# Altium schematic symbol library pulser_driver_symbols.SchLib: 59 symbols
Pins are listed as number, name and electrical type; pins without a type are passive.

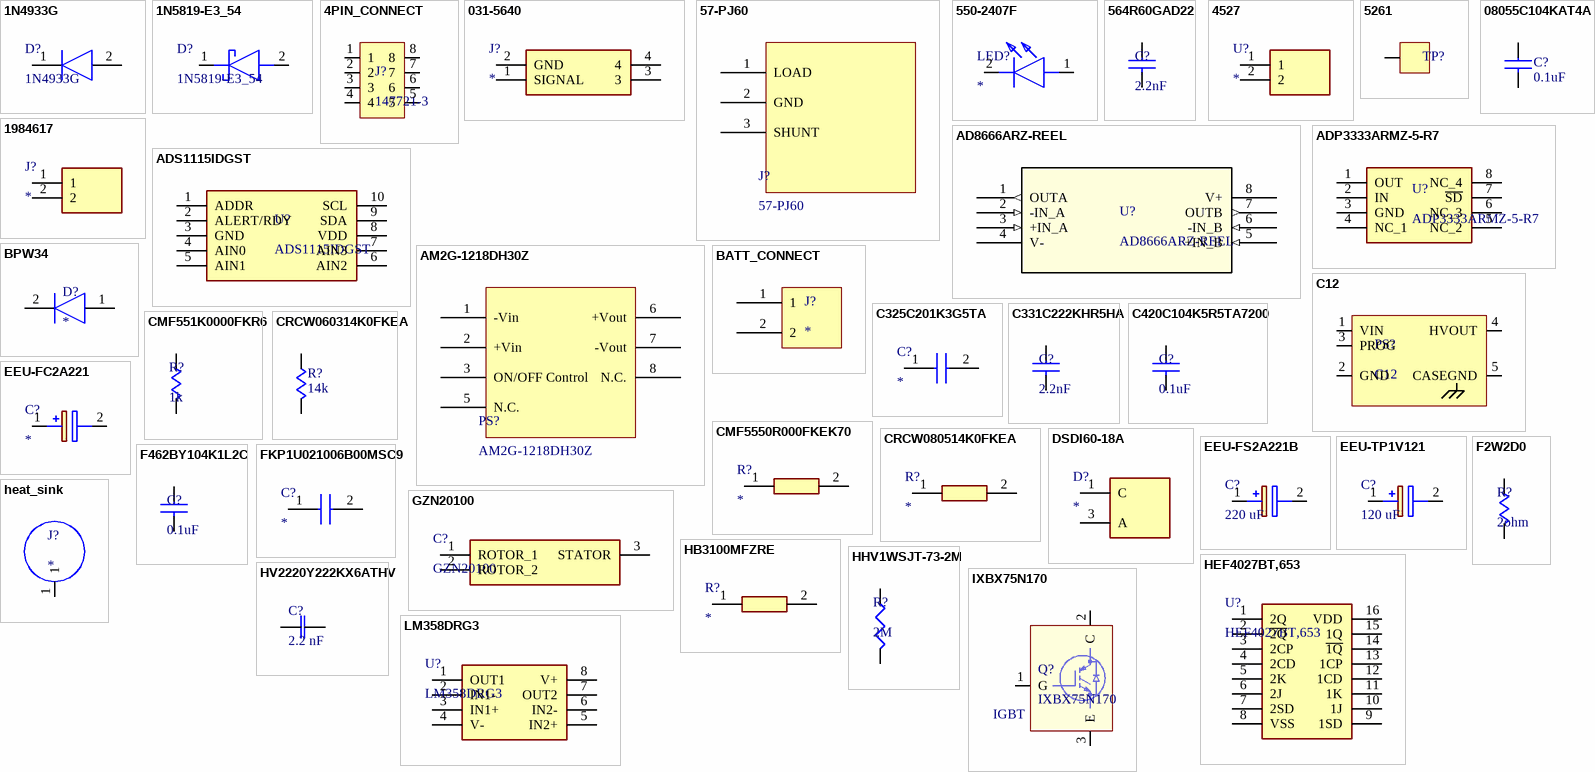
[diagram p0: symbols 1N4933G to LM358DRG3]

## 1N4933G
designator D?
Rectifiers 50V 1A Fast; Manufacturer_Name: ON Semiconductor; Datasheet Link: https://www.arrow.com/en/products/1n4933g/on-semiconductor; Manufacturer_Part_Number: 1N4933G; Mouser Part Number: 863-1N4933G; Mouser Price/Stock: https://www.mouser.co.uk/ProductDetail/onsemi/1N4933G?qs=y2kkmE52mdNCdpmhcWNRQA%3D%3D; Arrow Part Number: 1N4933G; Arrow Price/Stock: https://www.arrow.com/en/products/1n4933g/on-semiconductor?region=nac
footprint DIOAD1405W86L465D235
pins: 1 K, 2 A

## 1N5819-E3_54
designator D?
Schottky Diode; Manufacturer_Name: Vishay; Manufacturer_Part_Number: 1N5819-E3/54; Datasheet Link: https://www.vishay.com/docs/88525/1n5817.pdf; Mouser Part Number: 625-1N5819-E3; Mouser Price/Stock: https://www.mouser.co.uk/ProductDetail/Vishay-General-Semiconductor/1N5819-E3-54?qs=7w0fSgRKp93guDuu%252B5hJ0Q%3D%3D
footprint DIOAD1405W86L465D235
pins: 1 K, 2 A

## 4PIN_CONNECT
designator J?, comment 147721-3
footprint 4PIN_CONNECT
pins: 1, 2, 3, 4, 5, 6, 7, 8

## 031-5640
designator J?
Connector; Manufacturer_Name: Amphenol; Manufacturer_Part_Number: 031-5640-1010; Datasheet Link: https://datasheet.datasheetarchive.com/originals/distributors/Datasheets_SAMA/570beec7961c44031375f59c7939d09c.pdf; Height: 15.9mm
footprint 031-5640
pins: 1 SIGNAL, 2 GND, 3, 4

## 57-PJ60
designator J?
footprint 57-PJ60
pins: 1 LOAD, 2 GND, 3 SHUNT

## 550-2407F
designator LED?
LED; Manufacturer_Name: Dialight; Manufacturer_Part_Number: 550-2407F; Datasheet Link: https://componentsearchengine.com//550-2407F.pdf; Height: 6.1mm; Mouser2 Part Number: 645-550-2407F; Mouser2 Price/Stock: https://www.mouser.com/Search/Refine.aspx?Keyword=645-550-2407F
footprint 5502407F
pins: 1 A, 2 K

## 564R60GAD22
designator C?, comment 2.2nF
CAP CER TH 2200PF 6KV Z5U RADIAL
footprint 564R60GAD22
pins: 1, 2

## 4527
designator U?
Undefined or Miscellaneous; Manufacturer_Name: Keystone Electronics; Manufacturer_Part_Number: 4527; Datasheet Link: https://componentsearchengine.com//4527.pdf; Mouser2 Part Number: 534-4527; Mouser2 Price/Stock: https://www.mouser.com/Search/Refine.aspx?Keyword=534-4527
footprint 4527
pins: 1, 2

## 5261
designator TP?  (value not drawn)
TEST POINT grabber (BLACK) - MINIATURE
footprint 5261
pins: 1

## 08055C104KAT4A
designator C?, comment 0.1uF
CAP CER 0.1UF 50V X7R 0805; Value: *
footprint c_0805
pins: 1, 2

## 1984617
designator J?
Connector; Manufacturer_Name: Phoenix Contact; Manufacturer_Part_Number: 1984617; Datasheet Link: https://datasheet.datasheetarchive.com/originals/distributors/Datasheets-DGA17/1074867.pdf; Height: 9.3mm; Mouser Part Number: 651-1984617; Mouser Price/Stock: https://www.mouser.co.uk/ProductDetail/Phoenix-Contact/1984617?qs=ATjOrvm3mOhUrGlJQoUcpQ%3D%3D; Arrow Part Number: 1984617; Arrow Price/Stock: https://www.arrow.com/en/products/1984617/phoenix-contact?region=nac
footprint 1984617
pins: 1, 2

## AD8666ARZ-REEL
designator U?
AD8666ARZ-REELCT-ND
footprint AD8666ARZ-REEL (AD8666ARZ-REELCT-ND)
pins: 1 OUTA (out), 2 -IN_A (in), 3 +IN_A (in), 4 V- (power), 5 +IN_B (in), 6 -IN_B (in), 7 OUTB (out), 8 V+ (power)

## ADP3333ARMZ-5-R7
designator U?
IC REG LINEAR 5V 300MA 8MSOP
footprint SOP65P490X110-8N
pins: 1 OUT, 2 IN, 3 GND, 4 NC_1, 5 NC_2, 6 NC_3, 7 ~{SD}, 8 NC_4

## ADS1115IDGST
designator U?
ADC
footprint ADS1115-SOP
pins: 1 ADDR, 2 ALERT/RDY, 3 GND, 4 AIN0, 5 AIN1, 6 AIN2, 7 AIN3, 8 VDD, 9 SDA, 10 SCL

## AM2G-1218DH30Z
designator PS?
footprint AM2G-1218DH30Z
pins: 1 -Vin, 2 +Vin, 3 ON/OFF Control, 5 N.C., 6 +Vout, 7 -Vout, 8 N.C.

## BATT_CONNECT
designator J?
footprint batt_connect
pins: 1, 2

## BPW34
designator D?
VISHAY - BPW34 - Photodiode, 65 °, 2 nA, 900 nm, DIP-2; Dark Current: 2nA; Wavelength: 900nm; Rise Time: 100ns; Reverse Breakdown Voltage: 60V; Power Dissipation: 215mW; Diode Type: PIN; Viewing Angle: 130°; Lens Style: Clear; Supplier 1: Digi-Key; Manufacturer 1: Vishay; RoHS: Yes; Category: Photodiodes; Stock 1: 8180; Pricing 1: 1=1.21000, 10=0.98200, 100=0.60400, 500=0.51340, 1000=0.42280, 2500=0.40166, 5000=0.39260, 10000=0.38354, 25000=0.37750 (USD); Mount: Through Hole,PCB; Case/Package: DIP; Number of Pins: 2; Contact Plating: Tin; Min Operating Temperature: -40°C; Max Operating Temperature: 100°C; Packaging: Bulk; Fall Time: 100ns; Package Quantity: 3000; Max Reverse Voltage (DC): 60V; Reverse Voltage (DC): 60V; Max Power Dissipation: 215mW; Breakdown Voltage: 60V; Length: 4.5mm; Height: 2mm; Width: 4.3mm; Radiation Hardening: No; REACH SVHC: Unknown; Lead Free: Lead Free; ComponentLink1URL: https://datasheet.ciiva.com/15117/getdatasheetpartid-112064-15117125.pdf?src-supplier=Verical; ComponentLink1Description: https://datasheet.ciiva.com/15117/getdatasheetpartid-112064-15117125.pdf?src-supplier=Verical; ComponentLink2URL: https://datasheet.ciiva.com/25620/0900766b80de9fc5-25620357.pdf?src-supplier=RSComponents; ComponentLink2Description: https://datasheet.ciiva.com/25620/0900766b80de9fc5-25620357.pdf?src-supplier=RSComponents; ComponentLink3URL: https://datasheet.ciiva.com/1336/6514-1336219.pdf?src-supplier=Newark; ComponentLink3Description: https://datasheet.ciiva.com/1336/6514-1336219.pdf?src-supplier=Newark; ComponentLink4URL: https://datasheet.ciiva.com/4697/bpw34-79369-4697616.pdf?src-supplier=Mouser; ComponentLink4Description: https://datasheet.ciiva.com/4697/bpw34-79369-4697616.pdf?src-supplier=Mouser; ComponentLink5URL: https://datasheet.ciiva.com/1249/bpw34-1249073.pdf?src-supplier=Element14; ComponentLink5Description: https://datasheet.ciiva.com/1249/bpw34-1249073.pdf?src-supplier=Element14; ComponentLink6URL: https://datasheet.ciiva.com/1248/33605-1248690.pdf?src-supplier=Element14; ComponentLink6Description: https://datasheet.ciiva.com/1248/33605-1248690.pdf?src-supplier=Element14; ComponentLink7URL: https://datasheet.ciiva.com/4269/2bpw34-4269812.pdf?src-supplier=Arrow+Electronics; ComponentLink7Description: https://datasheet.ciiva.com/4269/2bpw34-4269812.pdf?src-supplier=Arrow+Electronics; ComponentLink8URL: https://datasheet.ciiva.com/8084/bpw34-8084840.pdf?src-supplier=Avnet; ComponentLink8Description: https://datasheet.ciiva.com/8084/bpw34-8084840.pdf?src-supplier=Avnet; ComponentLink9URL: https://datasheet.ciiva.com/2819/bpw34-2819744.pdf?src-supplier=Digi-Key; ComponentLink9Description: https://datasheet.ciiva.com/2819/bpw34-2819744.pdf?src-supplier=Digi-Key; ComponentLink10URL: https://datasheet.ciiva.com/1335/1809684-1335889.pdf?src-supplier=Newark; ComponentLink10Description: https://datasheet.ciiva.com/1335/1809684-1335889.pdf?src-supplier=Newark; ComponentLink11URL: https://datasheet.ciiva.com/1248/bpw34-1248686.pdf?src-supplier=Element14; ComponentLink11Description: https://datasheet.ciiva.com/1248/bpw34-1248686.pdf?src-supplier=Element14; Supplier Part Number 1: 751-1015-ND; Manufacturer Part Number 1: BPW34
footprint BPW34
pins: 1 A, 2 K

## C12
designator PS?
MPN is C12, DC DC conv
footprint C12
pins: 1 VIN, 2 GND, 3 PROG, 4 HVOUT, 5 CASEGND

## C325C201K3G5TA
designator C?
Capacitor; Manufacturer_Name: Kemet; Manufacturer_Part_Number: C325C201K3G5TA; Datasheet Link: https://www.kemet.com/specsheet/C325C201K3G5TA; Height: 7.62mm
footprint C325C201K3G5TA
pins: 1, 2

## C331C222KHR5HA
designator C?, comment 2.2nF
Multilayer Ceramic Capacitors MLCC - Leaded 3000V 2200pF X7R 10% LS=6.35mm
footprint C331C222KHR5HA
pins: 1, 2

## C420C104K5R5TA7200
designator C?, comment 0.1uF
CAP CER TH 0.1UF 50V X7R AXIAL
footprint C420C104K5R5TA7200
pins: 1, 2

## CMF551K0000FKR6
designator R?, comment 1k
Metal Film Resistors - Through Hole 1/2W 1Kohms 1%
footprint CMF551K0000FKR6
pins: 1, 2

## CMF5550R000FKEK70
designator R?
Resistor; Manufacturer_Name: Vishay; Manufacturer_Part_Number: CMF5550R000FKEK70; Datasheet Link: http://www.vishay.com/docs/31018/cmfind.pdf
footprint RESAD1526W69L610D229
pins: 1, 2

## CRCW060314K0FKEA
designator R?, comment 14k
RES 14.0K OHM 1/10W 1% 0603 SMD
footprint r_0603
pins: 1, 2

## CRCW080514K0FKEA
designator R?
Resistor; Manufacturer_Name: Vishay; Manufacturer_Part_Number: CRCW080514K0FKEA; Datasheet Link: http://www.vishay.com/docs/20035/dcrcwe3.pdf; Height: 0.5mm
footprint RESC2012X50N
pins: 1, 2

## DSDI60-18A
designator D?
Diode; Manufacturer_Name: LITTELFUSE; Manufacturer_Part_Number: DSDI60-18A; Datasheet Link: http://ixapps.ixys.com/DataSheet/96517.pdf; Height: 5.3mm
footprint TO546P530X1586X2594-2P
pins: 1 C, 3 A

## EEU-FC2A221
designator C?
Capacitor Polarised; Manufacturer_Name: Panasonic; Manufacturer_Part_Number: EEU-FC2A221; Description: Aluminium Electrolytic Capacitor; Datasheet Link: http://industrial.panasonic.com/cdbs/www-data/pdf/RDF0000/ABA0000C1209.pdf; Height: 27mm
footprint CAPPRD750W85D1600H2700
pins: 1 +, 2 -

## EEU-FS2A221B
designator C?, comment 220 uF
Capacitor Polarised 100VDC 220uF 1800mA EEU-FS2A221B; Manufacturer_Name: Panasonic; Datasheet Link: http://industrial.panasonic.com/cdbs/www-data/pdf/RDF0000/ABA0000C1255.pdf; Height: 27mm; Manufacturer_Part_Number: EEU-FS2A221B; Mouser Part Number: 667-EEU-FS2A221B; Mouser Price/Stock: https://www.mouser.co.uk/ProductDetail/Panasonic/EEU-FS2A221B?qs=w%2Fv1CP2dgqqAbg7G%252BWfZEw%3D%3D; Arrow Part Number: EEU-FS2A221B; Arrow Price/Stock: https://www.arrow.com/en/products/eeu-fs2a221b/panasonic
footprint CAPPRD500W65D1250H2700
pins: 1 +, 2 -

## EEU-TP1V121
designator C?, comment 120 uF
Capacitor Polarised; Manufacturer_Name: Panasonic; Manufacturer_Part_Number: EEU-TP1V121; Datasheet Link: http://industrial.panasonic.com/cdbs/www-data/pdf/RDF0000/ABA0000C1134.pdf; Height: 14mm
footprint CAPPRD500W65D1000H1400
pins: 1 +, 2 -

## F2W2D0
designator R?, comment 2ohm
RES TH 2 OHM 5% 2W AXIAL
footprint F2W2D0
pins: 1, 2

## F462BY104K1L2C
designator C?, comment 0.1uF
Film Capacitors 1250V 0.1uF 10% LS=15mm
footprint F462BY104K1L2C
pins: 1, 2

## FKP1U021006B00MSC9
designator C?
Capacitor; Manufacturer_Name: WIMA; Manufacturer_Part_Number: FKP1U021006B00MSC9; Datasheet Link: https://www.mouser.com/datasheet/2/440/e_WIMA_FKP_1-1139839.pdf; Height: 21mm
footprint FKP1U021006B00MSC9
pins: 1, 2

## GZN20100
designator C?
CAP TRIMMER 9-200PF 150V TH; Manufacturer_Name: Sprague Goodman; Datasheet Link: https://componentsearchengine.com/Datasheets/1/GZN20100.pdf; Height: 17mm; Manufacturer_Part_Number: GZN20100; Arrow Part Number: GZN20100; Mouser Part Number: 659-GZN20100; Mouser Price/Stock: https://www.mouser.com/Search/Refine.aspx?Keyword=659-GZN20100
footprint GZN20100
pins: 1 ROTOR_1, 2 ROTOR_2, 3 STATOR

## HB3100MFZRE
designator R?
Resistor; Manufacturer_Name: TE Connectivity; Manufacturer_Part_Number: HB3100MFZRE; Datasheet Link: http://www.te.com/commerce/DocumentDelivery/DDEController?Action=srchrtrv&DocNm=1773310&DocType=DS&DocLang=English
footprint HB3100MFZRE
pins: 1, 2

## heat_sink
designator J?
footprint heat_sink
pins: 1

## HEF4027BT,653
designator U?
Flip Flop JK TYPE DUAL 1BIT 16SO; Manufacturer_Name: Nexperia; Datasheet Link: https://assets.nexperia.com/documents/data-sheet/HEF4027B.pdf; Height: 1.75mm; Manufacturer_Part_Number: HEF4027BT,653; Arrow Part Number: HEF4027BT,653; Arrow Price/Stock: https://www.arrow.com/en/products/hef4027bt653/nexperia; Mouser Part Number: 771-HEF4027BTD-T; Mouser Price/Stock: https://www.mouser.com/Search/Refine.aspx?Keyword=771-HEF4027BTD-T
footprint HEF4027BT,653_SOIC
pins: 1 2Q, 2 ~{2Q}, 3 2CP, 4 2CD, 5 2K, 6 2J, 7 2SD, 8 VSS, 9 1SD, 10 1J, 11 1K, 12 1CD, 13 1CP, 14 ~{1Q}, 15 1Q, 16 VDD

## HHV1WSJT-73-2M
designator R?, comment 2M
RES 2M OHM 5% 1W AXIAL
footprint HHV1WSJT-73-2M
pins: 1, 2

## HV2220Y222KX6ATHV
designator C?, comment 2.2 nF
CAP CER 2.2 NF 6KV X7R 2220
footprint CAP_HV2220_VIS
pins: 1, 2

## IXBX75N170
designator Q?
Transistor IGBT; Manufacturer_Name: IXYS SEMICONDUCTOR; Datasheet Link: https://www.littelfuse.com/~/media/electronics/datasheets/discrete_igbts/littelfuse_discrete_igbts_bimosfet_ixb_75n170_datasheet.pdf.pdf; Height: 5.21mm; Manufacturer_Part_Number: IXBX75N170; Mouser Part Number: 747-IXBX75N170; Mouser Price/Stock: https://www.mouser.co.uk/ProductDetail/IXYS/IXBX75N170?qs=6UKyFUzHTllWMFJjywXaHA%3D%3D
footprint TO545P521X1594X2566-3P
pins: 1 G, 2 C, 3 E
text: IGBT

## LM358DRG3
designator U?
Integrated Circuit; Manufacturer_Name: Texas Instruments; Datasheet Link: http://www.ti.com/lit/gpn/lm358; Height: 1.75mm; Manufacturer_Part_Number: LM358DRG3; Arrow Part Number: LM358DRG3; Arrow Price/Stock: https://www.arrow.com/en/products/lm358drg3/texas-instruments; Mouser Part Number: 595-LM358DRG3; Mouser Price/Stock: https://www.mouser.co.uk/ProductDetail/Texas-Instruments/LM358DRG3?qs=EuM%2FBx4ov4Rx34%252Bm5fT4Qw%3D%3D
footprint LM358DRG3_SOIC
pins: 1 OUT1, 2 IN1-, 3 IN1+, 4 V-, 5 IN2+, 6 IN2-, 7 OUT2, 8 V+

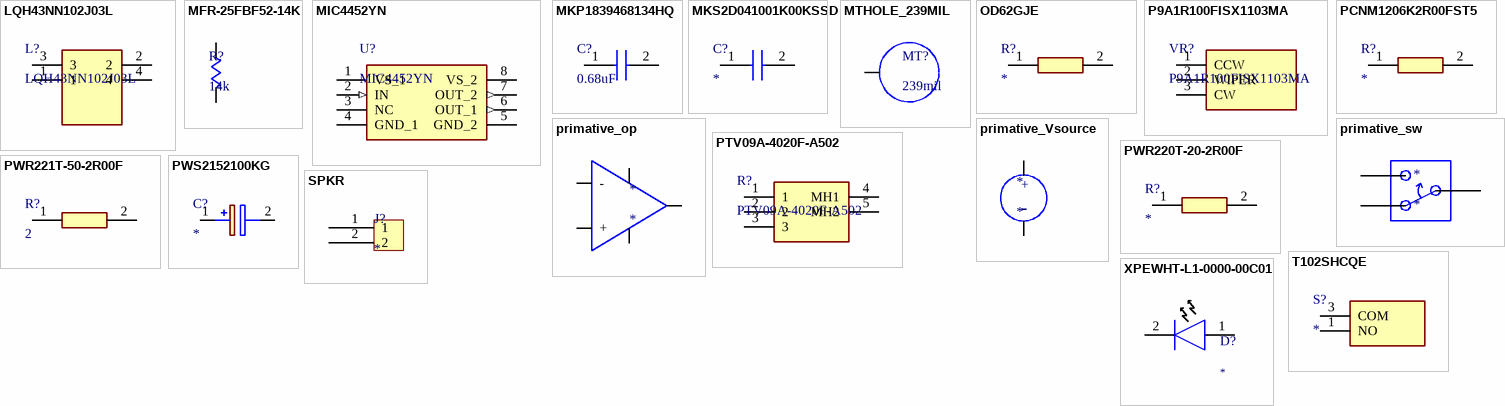
[diagram p1: symbols LQH43NN102J03L to XPEWHT-L1-0000-00C01]

## LQH43NN102J03L
designator L?
FIXED IND 1MH 50MA 25 OHM SMD; Manufacturer_Name: Murata Electronics; Datasheet Link: https://psearch.en.murata.com/inductor/product/LQH43NN102J03%23.html; Height: 2.8mm; Manufacturer_Part_Number: LQH43NN102J03L; Arrow Part Number: LQH43NN102J03L
footprint LQH43MN470K03L
pins: 1, 2, 3, 4

## MFR-25FBF52-14K
designator R?, comment 14k
RES TH 14K OHM 1% 1/4W AXIAL
footprint MFR-25FBF52-14K
pins: 1, 2

## MIC4452YN
designator U?
footprint DIP762W57P254L952H343Q8N
pins: 1 VS_1 (power), 2 IN (in), 3 NC, 4 GND_1 (power), 5 GND_2 (power), 6 OUT_1 (out), 7 OUT_2 (out), 8 VS_2 (power)

## MKP1839468134HQ
designator C?, comment 0.68uF
Capacitor MKP1839468134HQ; Manufacturer_Name: Vishay; Datasheet Link: https://www.vishay.com/docs/28162/mkp1839hq.pdf; Height: 28mm; Manufacturer_Part_Number: MKP1839468134HQ; Mouser Part Number: 75-MKP1839468134HQ; Mouser Price/Stock: https://www.mouser.com/Search/Refine.aspx?Keyword=75-MKP1839468134HQ
footprint MKP1839468134HQ
pins: 1, 2

## MKS2D041001K00KSSD
designator C?
Capacitor; Manufacturer_Name: WIMA; Manufacturer_Part_Number: MKS2D041001K00KSSD; Datasheet Link: https://componentsearchengine.com/Datasheets/2/MKS2D041001K00KSSD.pdf; Height: 13mm
footprint MKS2D041001K00KSSD
pins: 1, 2

## MTHOLE_239MIL
designator MT?, comment 239mil
Part Number: MTHOLE_239; Manufacturer Part Number: (NULL); Manufacturer: (NULL)
footprint MTHOLE_239mil
pins: 1

## OD62GJE
designator R?
Resistor; Manufacturer_Name: Ohmite; Manufacturer_Part_Number: OD62GJE; Datasheet Link: https://www.ohmite.com/assets/docs/res_od_of_oa.pdf
footprint RESAD1700W60L700D250
pins: 1, 2

## P9A1R100FISX1103MA
designator VR?
Variable Resistor 10K; Manufacturer_Name: Vishay; Datasheet Link: https://www.mouser.com/datasheet/2/427/p9-1763422.pdf; Height: 11.35mm; Manufacturer_Part_Number: P9A1R100FISX1103MA; Mouser Part Number: 72-P9A1RFISX1BB2103M; Mouser Price/Stock: https://www.mouser.com/Search/Refine.aspx?Keyword=72-P9A1RFISX1BB2103M
footprint P9A1R100FISX1103MA
pins: 1 CCW, 2 WIPER, 3 CW

## PCNM1206K2R00FST5
designator R?
Resistor; Manufacturer_Name: Vishay; Manufacturer_Part_Number: PCNM1206K2R00FST5; Datasheet Link: https://componentsearchengine.com/Datasheets/1/PCNM1206K2R00FST5.pdf; Height: 0.457mm
footprint RESC3216X46N
pins: 1, 2

## primative_op
designator *
pins: 0 +, 1 -, 2, 3 +Vcc, 4

## primative_sw
designator *
pins: 5, 6, 7

## primative_Vsource
designator *
pins: 0, 1
text: +; -

## PTV09A-4020F-A502
designator R?
Resistor; Manufacturer_Name: Bourns; Datasheet Link: https://www.bourns.com/docs/Product-Datasheets/ptv09.pdf; Height: 20mm; Manufacturer_Part_Number: PTV09A-4020F-A502; Arrow Part Number: PTV09A-4020F-A502; Mouser Part Number: 652-PTV09A-4020FA502; Mouser Price/Stock: https://www.mouser.co.uk/ProductDetail/Bourns/PTV09A-4020F-A502?qs=Qzws7J6gxqxBJ1n21bU9RA%3D%3D
footprint PTV09A-4020F-A502
pins: 1, 2, 3, 4 MH1, 5 MH2

## PWR220T-20-2R00F
designator R?
Resistor; Manufacturer_Name: Bourns; Manufacturer_Part_Number: PWR220T-20-2R00F; Datasheet Link: https://www.bourns.com/docs/product-datasheets/pwr220t-20.pdf?sfvrsn=85de74b5_4; Height: 4.38mm
footprint TO508P438X1010X1539-2P
pins: 1, 2

## PWR221T-50-2R00F
designator R?, comment 2
Thick Film Resistors - Through Hole RES TH TO220 2R 1% 50W; Manufacturer_Name: Bourns; Manufacturer_Part_Number: PWR220T-20-2R00F; Datasheet Link: https://www.mouser.com/datasheet/2/54/pwr221t_50-1862154.pdf; Height: 16.26mm
footprint PWR221T-50-2R00F
pins: 1, 2

## PWS2152100KG
designator C?
Capacitor Polarised; Manufacturer_Name: Nichicon; Manufacturer_Part_Number: PWS2152100KG; Datasheet Link: https://eu.mouser.com/datasheet/2/293/polypropylene_pws_fe578c43e0-2889090.pdf
footprint CAPPA6100W80L2700D850
pins: 1 +, 2 -

## SPKR
designator J?
footprint SPKR
pins: 1, 2

## T102SHCQE
designator S?
Switch; Manufacturer_Name: C & K COMPONENTS; Manufacturer_Part_Number: T102SHCQE; Datasheet Link: https://componentsearchengine.com/Datasheets/1/T102SHCQE.pdf; Height: 23.56mm
footprint T102SHCQE
pins: 1 NO, 3 COM

## XPEWHT-L1-0000-00C01
designator D?
footprint XPEWHT-L1-0000-00C01
pins: 1 A, 2 K